# EAGLE library part A9G (library LARS_409_MK)
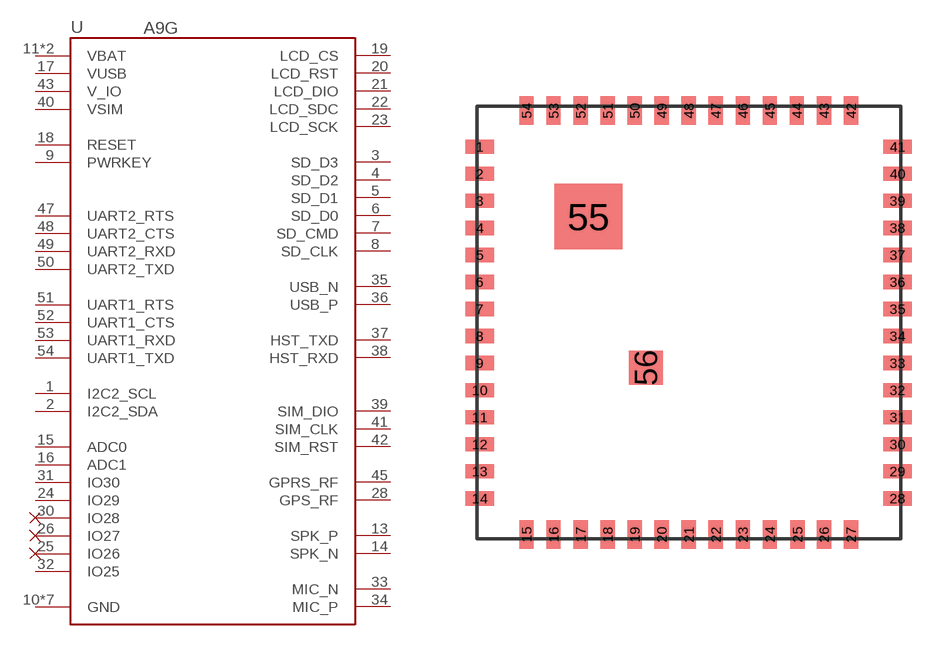
[diagram p13: symbol with the pads of QFN54(19X19); footprint QFN54(19X19)]

Designator prefix U

## A9G  [QFN54(19X19)]
1  I2C2_SCL
2  I2C2_SDA
3  SD_D3
4  SD_D2
5  SD_D1
6  SD_D0
7  SD_CMD
8  SD_CLK
9  PWRKEY
10  GND
11  VBAT
12  VBAT
13  SPK_P
14  SPK_N
15  ADC0
16  ADC1
17  VUSB
18  RESET
19  LCD_CS
20  LCD_RST
21  LCD_DIO
22  LCD_SDC
23  LCD_SCK
24  IO29
25  IO26
26  IO27
27  GND
28  GPS_RF
29  GND
30  IO28
31  IO30
32  IO25
33  MIC_N
34  MIC_P
35  USB_N
36  USB_P
37  HST_TXD
38  HST_RXD
39  SIM_DIO
40  VSIM
41  SIM_CLK
42  SIM_RST
43  V_IO
44  GND
45  GPRS_RF
46  GND
47  UART2_RTS
48  UART2_CTS
49  UART2_RXD
50  UART2_TXD
51  UART1_RTS
52  UART1_CTS
53  UART1_RXD
54  UART1_TXD
55  GND
56  GND

## Footprint QFN54(19X19) (pad centres in mm)
smd 1.27 x 0.635: 1 -9.27,7.8; 2 -9.27,6.6; 3 -9.27,5.4; 4 -9.27,4.2; 5 -9.27,3; 6 -9.27,1.8; 7 -9.27,0.6; 8 -9.27,-0.6; 9 -9.27,-1.8; 10 -9.27,-3; 11 -9.27,-4.2; 12 -9.27,-5.4; 13 -9.27,-6.6; 14 -9.27,-7.8; 28 9.273,-7.8; 29 9.273,-6.6; 30 9.273,-5.4; 31 9.273,-4.2; 32 9.273,-3; 33 9.273,-1.8; 34 9.273,-0.6; 35 9.273,0.6; 36 9.273,1.8; 37 9.273,3; 38 9.273,4.2; 39 9.273,5.4; 40 9.273,6.6; 41 9.273,7.8
smd 0.635 x 1.27: 15 -7.2,-9.397; 16 -6,-9.397; 17 -4.8,-9.397; 18 -3.6,-9.397; 19 -2.4,-9.397; 20 -1.2,-9.397; 21 0,-9.397; 22 1.2,-9.397; 23 2.4,-9.397; 24 3.6,-9.397; 25 4.825,-9.397; 26 6,-9.397; 27 7.2,-9.397; 42 7.2,9.4; 43 6,9.4; 44 4.8,9.4; 45 3.6,9.4; 46 2.4,9.4; 47 1.2,9.4; 48 0,9.4; 49 -1.2,9.4; 50 -2.4,9.4; 51 -3.6,9.4; 52 -4.8,9.4; 53 -6,9.4; 54 -7.2,9.4
smd 3 x 2.9: 55 -4.45,4.7
smd 1.5 x 1.5: 56 -1.9,-2